# Altium schematic symbol library Voltage-Regulators.SchLib: 11 symbols
Pins are listed as number, name and electrical type; pins without a type are passive.

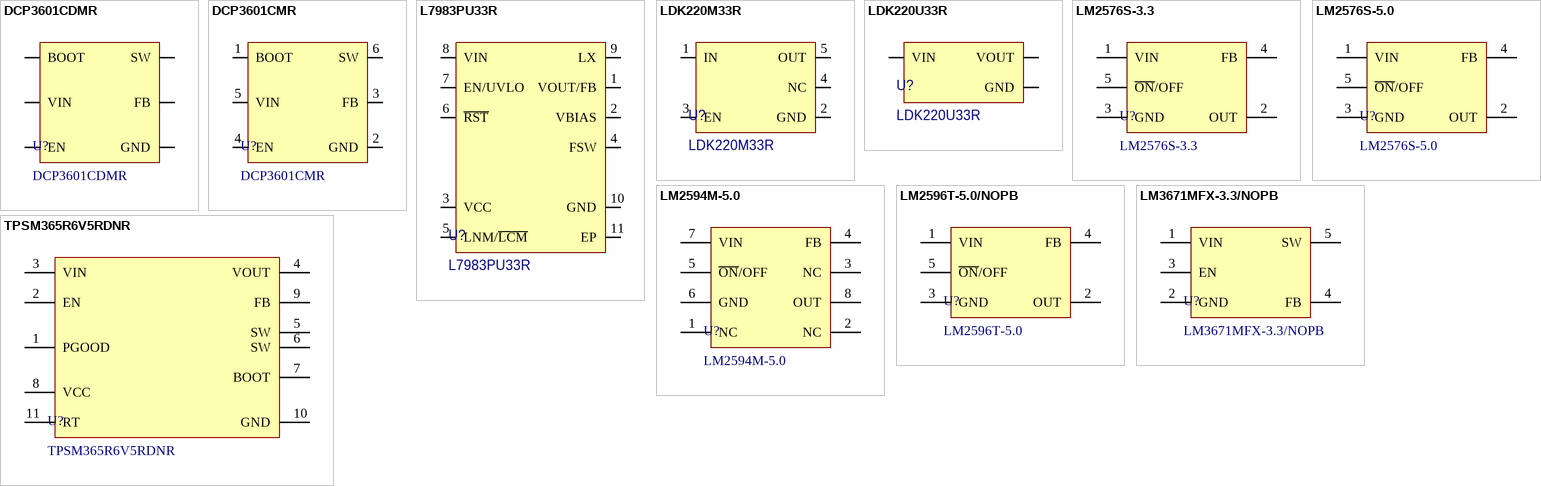
[diagram p0: symbols DCP3601CDMR to TPSM365R6V5RDNR]

## DCP3601CDMR
designator U?
IC REG 36 V, 1 A SYNCHRONOUS STEP-DOWN; Manufacturer: STMicroelectronics; Max Supply Voltage: 36V; Max Output current: 1A; Max Switching Frequency: 1.2MHz; Min Input Voltage: 3.3V; Nominal Supply Voltage: 24V; Nominal Output Voltage: 5V; Number of Circuits: 1; Topology: Buck; Supplier: DigiKey; Supplier Part Number: 497-DCP3601CDMRCT-ND; Manufacturer Part Number: DCP3601CDMR; RoHS: Compliant; Category: Voltage Regulators - Switching; Stock: 1270; Pricing: 1=0.79, 10=0.562, 25=0.5052, 100=0.443, 250=0.41336, 500=0.39546, 1000=0.38074, 2500=0.3652, 5000=0.35584 (USD); Height - Seated (Max): 1.25mm; Length: 2.92mm; Lifecycle Status: Production; Max Operating Temperature: 150°C; Min Operating Temperature: -40°C; Number of Terminals: 6; REACH SVHC: Yes; Terminal Pitch: 950µm; Width: 1.6mm
footprint SOT-23-6
pins: 1 BOOT, 2 GND, 3 FB, 4 EN, 5 VIN, 6 SW

## DCP3601CMR
designator U?
36 V, 1 A SYNCHRONOUS STEP-DOWN; Manufacturer: STMicroelectronics; Max Supply Voltage: 36V; Max Output current: 1A; Max Switching Frequency: 1.2MHz; Min Input Voltage: 3.3V; Nominal Supply Voltage: 24V; Nominal Output Voltage: 5V; Number of Circuits: 1; Topology: Buck; Supplier: DigiKey; Supplier Part Number: 497-DCP3601CMRCT-ND; Manufacturer Part Number: DCP3601CMR; RoHS: Compliant; Category: Voltage Regulators - Switching; Stock: 1980; Pricing: 1=0.79, 10=0.562, 25=0.5052, 100=0.443, 250=0.41336, 500=0.39546, 1000=0.38074, 2500=0.3652, 5000=0.35584 (USD); Height - Seated (Max): 1.25mm; Length: 2.92mm; Lifecycle Status: Production; Max Operating Temperature: 150°C; Min Operating Temperature: -40°C; Number of Terminals: 6; Terminal Pitch: 950µm; Width: 1.6mm
footprint SOT-23-6
pins: 1 BOOT, 2 GND, 3 FB, 4 EN, 5 VIN, 6 SW

## L7983PU33R
designator U?
IC REG BUCK 3.3V 300MA 10DFN; Manufacturer: STMicroelectronics; Max Supply Voltage: 60V; Max Switching Frequency: 2.42MHz; Min Input Voltage: 3.5V; Min Output Voltage: 850mV; Nominal Supply Voltage: 24V; Number of Circuits: 1; Quiescent Current: 10µA; Synchronous Rectifier: Yes; Supplier: DigiKey; Supplier Part Number: 497-L7983PU33RCT-ND; Manufacturer Part Number: L7983PU33R; RoHS: Compliant; Category: Voltage Regulators - Switching; Stock: 4366; Pricing: 1=2.69, 10=2.001, 25=1.83, 100=1.6411, 250=1.55108, 500=1.5155 (USD); China RoHS: Compliant; Country of Origin: Mainland China; Export Control Classification Number (ECCN) Code: EAR99; Height - Seated (Max): 800µm; Harmonized Tariff Schedule (HTS) Code: 8542.39.00.60; Introduction Date: 2020-10-06; Length: 3mm; Lifecycle Status: Production; Max Operating Temperature: 150°C; Max Output current: 300mA; Max Output Voltage: 60V; Min Operating Temperature: -40°C; Nominal Output Voltage: 3.3V; Number of Terminals: 10; Output Current: 300mA; Packaging: Tape and Reel; REACH SVHC: Yes; Schedule B: 8542390000, 8542390000|8542390000|8542390000|8542390000|8542390000|8542390000|8542390000|8542390000|8542390000|8542390000|8542390000|8542390000|8542390000|8542390000|8542390000|8542390000|8542390000|8542390000|8542390000|8542390000|8542390000|8542390000|8542390000|85; Terminal Pitch: 500µm; Topology: Buck; Width: 3mm
footprint 10-WFDFN-EP
pins: 1 VOUT/FB, 2 VBIAS, 3 VCC, 4 FSW, 5 LNM/~{LCM}, 6 ~{RST}, 7 EN/UVLO, 8 VIN, 9 LX, 10 GND, 11 EP

## LDK220M33R
designator U?
IC REG LINEAR 3.3V 200MA SOT23-5; Manufacturer: STMicroelectronics; Accuracy: 2%; Dropout Voltage: 200mV; Max Supply Voltage: 13.2V; Max Junction Temperature (Tj): 125°C; Max Power Dissipation: 500mW; Min Input Voltage: 4.3V; Number of Channels: 1; Output Type: Fixed; Polarity: Positive; Quiescent Current: 60µA; Voltage Tolerance: 3%; Supplier: DigiKey; Supplier Part Number: 497-14824-1-ND; Manufacturer Part Number: LDK220M33R; RoHS: Compliant; Category: LDO Voltage Regulators; Stock: 13215; Pricing: 1=0.39, 10=0.268, 25=0.2388, 100=0.2061, 250=0.1906, 500=0.18124, 1000=0.17353 (USD); Case/Package: LSSOP; China RoHS: Compliant; Contact Plating: Tin; Country of Origin: Mainland China; Export Control Classification Number (ECCN) Code: EAR99; Height: 1mm; Height - Seated (Max): 1.45mm; Harmonized Tariff Schedule (HTS) Code: 8542.39.00.60; Introduction Date: 2014-03-19; Lead Free: Lead Free; Length: 2.95mm; Lifecycle Status: Production; Max Operating Temperature: 125°C; Max Output current: 200mA; Min Operating Temperature: -40°C; Mounting Technology: Surface Mount; Nominal Output Voltage: 3.3V; Number of Circuits: 1; Number of Outputs: 1; Pins: 5; Number of Regulators: 1; Number of Terminals: 5; Output Current: 200mA; Output Voltage: 3.3V; Packaging: Cut Tape; Radiation Hardening: No; REACH SVHC: Yes; Schedule B: 8542390000, 8542390000|8542390000|8542390000|8542390000|8542390000; Terminal Pitch: 950µm; Weight: 29.993795mg; Width: 1.6mm; ComponentLink1URL: https://datasheet.octopart.com:443/LDK220M33R-STMicroelectronics-datasheet-164563982.pdf?src-supplier=IHS; ComponentLink1Description: https://datasheet.octopart.com:443/LDK220M33R-STMicroelectronics-datasheet-164563982.pdf?src-supplier=IHS; ComponentLink2URL: https://datasheet.octopart.com:443/LDK220M33R-STMicroelectronics-datasheet-44506895.pdf?src-supplier=element14+APAC; ComponentLink2Description: https://datasheet.octopart.com:443/LDK220M33R-STMicroelectronics-datasheet-44506895.pdf?src-supplier=element14+APAC; ComponentLink3URL: https://datasheet.octopart.com:443/LDK220M33R-STMicroelectronics-datasheet-24910216.pdf?src-supplier=Future+Electronics; ComponentLink3Description: https://datasheet.octopart.com:443/LDK220M33R-STMicroelectronics-datasheet-24910216.pdf?src-supplier=Future+Electronics; ComponentLink4URL: https://datasheet.octopart.com:443/LDK220M33R-STMicroelectronics-datasheet-36991664.pdf?src-supplier=Newark; ComponentLink4Description: https://datasheet.octopart.com:443/LDK220M33R-STMicroelectronics-datasheet-36991664.pdf?src-supplier=Newark; ComponentLink5URL: https://datasheet.octopart.com:443/LDK220M33R-STMicroelectronics-datasheet-101746762.pdf?src-supplier=Augswan; ComponentLink5Description: https://datasheet.octopart.com:443/LDK220M33R-STMicroelectronics-datasheet-101746762.pdf?src-supplier=Augswan
footprint SOT-23-5
pins: 1 IN, 2 GND, 3 EN, 4 NC, 5 OUT

## LDK220U33R
designator U?
IC REG LINEAR 3.3V 200MA SOT89; Manufacturer: STMicroelectronics; Max Supply Voltage: 13.2V; Max Junction Temperature (Tj): 125°C; Min Input Voltage: 4.3V; Number of Channels: 1; Output Type: Fixed; Voltage Tolerance: 3%; Supplier: DigiKey; Supplier Part Number: 497-17107-1-ND; Manufacturer Part Number: LDK220U33R; RoHS: Compliant; Category: LDO Voltage Regulators; Stock: 20368; Pricing: 1=0.39, 10=0.268, 25=0.2388, 100=0.2061, 250=0.1906, 500=0.18124, 1000=0.17353 (USD); China RoHS: Compliant; Height - Seated (Max): 1.6mm; Length: 4.5mm; Lifecycle Status: Production; Number of Circuits: 1; Number of Outputs: 1; Number of Terminals: 3; Output Current: 200mA; Output Voltage: 3.3V; Packaging: Cut Tape; REACH SVHC: Yes; Schedule B: 8542390000, 8542390000|8542390000|8542390000|8542390000|8542390000; Terminal Pitch: 1.495mm; Width: 2.445mm; ComponentLink1URL: https://datasheet.octopart.com:443/LDK220U33R-STMicroelectronics-datasheet-164563982.pdf?src-supplier=IHS; ComponentLink1Description: https://datasheet.octopart.com:443/LDK220U33R-STMicroelectronics-datasheet-164563982.pdf?src-supplier=IHS; ComponentLink2URL: https://datasheet.octopart.com:443/LDK220U33R-STMicroelectronics-datasheet-78844600.pdf?src-supplier=HQonline; ComponentLink2Description: https://datasheet.octopart.com:443/LDK220U33R-STMicroelectronics-datasheet-78844600.pdf?src-supplier=HQonline; ComponentLink3URL: https://datasheet.octopart.com:443/LDK220U33R-STMicroelectronics-datasheet-101746762.pdf?src-supplier=SHENGYU+ELECTRONICS; ComponentLink3Description: https://datasheet.octopart.com:443/LDK220U33R-STMicroelectronics-datasheet-101746762.pdf?src-supplier=SHENGYU+ELECTRONICS
footprint SOT-89
pins: 1 VOUT, 2 GND, 3 VIN

## LM2576S-3.3
designator U?
IC REG BUCK 3.3V 3A TO263-5L; Manufacturer: UMW(Youtai Semiconductor); Supplier: Digikey; Supplier Part Number: 4518-LM2576S-3.3CT-ND; Manufacturer Part Number: LM2576S-3.3; RoHS: No; Stock: 265; Pricing: 1=2.64, 5=2.544, 10=2.503, 25=2.4496, 50=2.4098, 100=2.3707, 250=2.31996 (USD)
footprint TO-263-6
pins: 1 VIN, 2 OUT, 3 GND, 4 FB, 5 ~{ON}/OFF

## LM2576S-5.0
designator U?
IC REG BUCK 3A TO263-5L; Manufacturer: UMW(Youtai Semiconductor); Supplier: Digikey; Supplier Part Number: 4518-LM2576S-5.0CT-ND; Manufacturer Part Number: LM2576S-5.0; RoHS: No; Stock: 1576; Pricing: 1=3.46, 10=2.212, 25=1.8856, 100=1.516, 250=1.3346 (USD)
footprint TO-263-6
pins: 1 VIN, 2 OUT, 3 GND, 4 FB, 5 ~{ON}/OFF

## LM2594M-5.0
designator U?
IC REG BUCK 5V 500MA 8SOIC; Manufacturer: Texas Instruments; Package Body Material: Plastic; Throw Configuration: SWITCHING REGULATOR; Control Mode: VOLTAGE-MODE; Control Technique: PULSE WIDTH MODULATION; Max Supply Voltage: 40V; Min Input Voltage: 4.5V; Nominal Supply Voltage: 12V; Channels: 1; Max Output current: 1.4A; Package Equivalence Code: SOP8,.25; Frequency: 173kHz; Qualification Status: Not Qualified; Supplier: Digikey; Supplier Part Number: LM2594M-5.0-ND; Manufacturer Part Number: LM2594M-5.0; RoHS: No; Category: Voltage Regulators - Switching; Stock: 6831; Pricing: 1=5.29, 10=4.035, 95=3.38947, 190=3.25984, 285=3.19495, 570=3.0997, 1045=3.03036, 2565=2.94707 (USD); Case/Package: SOP; Pins: 8; Package Shape: Rectangular; Terminal Finish: Tin; Min Operating Temperature: -40°C; Max Operating Temperature: 125°C; JESD-609 Code: e0; JESD-30 Code: R-PDSO-G8; Moisture Sensitivity Level: 1; Nominal Output Voltage: 5V; Package Style: SMALL OUTLINEMeter; Peak Reflow Temperature (Cel): 235°C; Surface Mount: Yes; Switcher Configuration: BUCK; Technology: BIPOLAR; Terminal Form: Gull Wing; Terminal Position: DUAL; Length: 4.9mm; Width: 3.9mm; Height - Seated (Max): 1.75mm; Terminal Pitch: 1.27mm; Temperature Grade: AUTOMOTIVE; RoHS Compliant: No; Reach SVHC Compliant: No; ComponentLink1URL: https://www.ti.com:443/lit/ds/symlink/lm2594.pdf?src-supplier=IHS+Markit; ComponentLink1Description: https://www.ti.com:443/lit/ds/symlink/lm2594.pdf?src-supplier=IHS+Markit; ComponentLink2URL: https://datasheet.ciiva.com/15113/getdatasheetpartid-224262-15113414.pdf?src-supplier=Verical; ComponentLink2Description: https://datasheet.ciiva.com/15113/getdatasheetpartid-224262-15113414.pdf?src-supplier=Verical; ComponentLink3URL: https://datasheet.ciiva.com/4905/snvs118b-14279-4905536.pdf?src-supplier=Mouser; ComponentLink3Description: https://datasheet.ciiva.com/4905/snvs118b-14279-4905536.pdf?src-supplier=Mouser; ComponentLink4URL: https://datasheet.ciiva.com/6596/lm2594-6596622.pdf?src-supplier=Digikey; ComponentLink4Description: https://datasheet.ciiva.com/6596/lm2594-6596622.pdf?src-supplier=Digikey; ComponentLink5URL: https://datasheet.ciiva.com/14303/lm2594-14303576.pdf?src-supplier=Avnet; ComponentLink5Description: https://datasheet.ciiva.com/14303/lm2594-14303576.pdf?src-supplier=Avnet; ComponentLink6URL: https://datasheet.ciiva.com/22669/1640740-22669247.pdf?src-supplier=Element14; ComponentLink6Description: https://datasheet.ciiva.com/22669/1640740-22669247.pdf?src-supplier=Element14
footprint SOIC-8
pins: 1 NC, 2 NC, 3 NC, 4 FB, 5 ~{ON}/OFF, 6 GND, 7 VIN, 8 OUT

## LM2596T-5.0/NOPB
designator U?, comment LM2596T-5.0
IC REG BUCK 5V 3A TO220-5; Manufacturer: TI National Semiconductor; Manufacturer Part Number: LM2596T-5.0/NOPB; Throw Configuration: SWITCHING REGULATOR; Control Mode: VOLTAGE-MODE; Max Supply Voltage: 40V; Min Input Voltage: 7V; Nominal Supply Voltage: 12V; Channels: 1; Max Output current: 7.5A; Surface Mount: No; Frequency: 173kHz; Qualification Status: Not Qualified; Supplier: Digikey; Supplier Part Number: LM2596T-5.0/NOPB-ND; RoHS: Yes; Category: Voltage Regulators - Switching; Stock: 287; Pricing: 1=5.83, 10=5.235, 45=4.94956, 135=4.28956, 270=4.06959, 540=3.65163, 1035=3.07969, 2520=2.92571 (USD); Case/Package: ZIP; Pins: 5; Package Shape: Rectangular; Terminal Finish: Tin; Min Operating Temperature: -40°C; Max Operating Temperature: 125°C; JESD-609 Code: e3; Moisture Sensitivity Level: 1; Nominal Output Voltage: 5V; Package Style: FLANGE MOUNTMeter; Switcher Configuration: BUCK; Technology: BIPOLAR; Terminal Form: Through Hole; Terminal Position: ZIG-ZAG; Terminal Pitch: 1.7mm; Temperature Grade: AUTOMOTIVE; Reach SVHC Compliant: Yes; RoHS Compliant: Yes; ComponentLink1URL: https://www.ti.com:443/lit/ds/symlink/lm2596.pdf?src-supplier=IHS+Markit; ComponentLink1Description: https://www.ti.com:443/lit/ds/symlink/lm2596.pdf?src-supplier=IHS+Markit; ComponentLink2URL: https://datasheet.ciiva.com/27050/895246-27050702.pdf?src-supplier=Jameco; ComponentLink2Description: https://datasheet.ciiva.com/27050/895246-27050702.pdf?src-supplier=Jameco; ComponentLink3URL: https://datasheet.ciiva.com/15112/getdatasheetpartid-112480-15112922.pdf?src-supplier=Verical; ComponentLink3Description: https://datasheet.ciiva.com/15112/getdatasheetpartid-112480-15112922.pdf?src-supplier=Verical; ComponentLink4URL: https://datasheet.ciiva.com/41457/001013818-da-01-en-ic-reg-buc-lm2596t-5-0-nopb-to-220-5-tid-41457761.pdf?src-supplier=Conrad; ComponentLink4Description: https://datasheet.ciiva.com/41457/001013818-da-01-en-ic-reg-buc-lm2596t-5-0-nopb-to-220-5-tid-41457761.pdf?src-supplier=Conrad; ComponentLink5URL: https://datasheet.ciiva.com/14150/jqlm2596x-xx-e-14150652.pdf?src-supplier=Distrelec; ComponentLink5Description: https://datasheet.ciiva.com/14150/jqlm2596x-xx-e-14150652.pdf?src-supplier=Distrelec; ComponentLink6URL: https://datasheet.ciiva.com/3219/lm2596-3219991.pdf?src-supplier=Avnet; ComponentLink6Description: https://datasheet.ciiva.com/3219/lm2596-3219991.pdf?src-supplier=Avnet; ComponentLink7URL: https://datasheet.ciiva.com/6580/lm2596-6580189.pdf?src-supplier=Digikey; ComponentLink7Description: https://datasheet.ciiva.com/6580/lm2596-6580189.pdf?src-supplier=Digikey; ComponentLink8URL: https://datasheet.ciiva.com/22669/1768026-22669468.pdf?src-supplier=Element14; ComponentLink8Description: https://datasheet.ciiva.com/22669/1768026-22669468.pdf?src-supplier=Element14
footprint TO-220-5 (FM, 5-Leads, Body 10.6x4.7mm, Pitch 1.7mm)
pins: 1 VIN, 2 OUT, 3 GND, 4 FB, 5 ~{ON}/OFF

## LM3671MFX-3.3/NOPB
designator U?
IC REG BUCK 3.3V 600MA SOT23-5; Manufacturer: TI National Semiconductor; Package Body Material: Plastic; Throw Configuration: SWITCHING REGULATOR; Control Mode: VOLTAGE-MODE; Control Technique: PULSE WIDTH MODULATION; Max Supply Voltage: 5.5V; Min Input Voltage: 2.7V; Nominal Supply Voltage: 3.6V; Channels: 1; Max Output current: 1.15A; Package Equivalence Code: TSOP5/6,.11,37; Frequency: 2.6MHz; Time @ Peak Reflow Temperature-Max (s): 40s; Qualification Status: Not Qualified; Supplier: Digikey; Supplier Part Number: 296-45289-1-ND; Manufacturer Part Number: LM3671MFX-3.3/NOPB; RoHS: Yes; Category: Voltage Regulators - Switching; Stock: 5523; Pricing: 1=1.33, 10=0.967, 25=0.876, 100=0.7762, 250=0.72848, 500=0.69974, 1000=0.67607 (USD); Case/Package: LSSOP; Pins: 5; Package Shape: Rectangular; Terminal Finish: Tin; Min Operating Temperature: -30°C; Max Operating Temperature: 85°C; JESD-609 Code: e3; JESD-30 Code: R-PDSO-G5; Moisture Sensitivity Level: 1; Package Style: SMALL OUTLINE, LOW PROFILE, SHRINK PITCHMeter; Peak Reflow Temperature (Cel): 260°C; Surface Mount: Yes; Switcher Configuration: BUCK; Terminal Form: Gull Wing; Terminal Position: DUAL; Length: 2.92mm; Width: 1.6mm; Height - Seated (Max): 1.22mm; Terminal Pitch: 0.953mm; Temperature Grade: OTHER; Reach SVHC Compliant: Yes; RoHS Compliant: Yes; ComponentLink1URL: https://datasheet.ciiva.com:443/pdfs/VipMasterIC/IC/NATL/NATLS09652/NATLS09652-1.pdf?src-supplier=IHS+Markit; ComponentLink1Description: https://datasheet.ciiva.com:443/pdfs/VipMasterIC/IC/NATL/NATLS09652/NATLS09652-1.pdf?src-supplier=IHS+Markit; ComponentLink2URL: https://datasheet.ciiva.com/6606/lm3671-6606568.pdf?src-supplier=Digikey; ComponentLink2Description: https://datasheet.ciiva.com/6606/lm3671-6606568.pdf?src-supplier=Digikey; ComponentLink3URL: https://datasheet.ciiva.com/14377/lm3671-14377151.pdf?src-supplier=Avnet; ComponentLink3Description: https://datasheet.ciiva.com/14377/lm3671-14377151.pdf?src-supplier=Avnet
footprint SOT-23-5
pins: 1 VIN, 2 GND, 3 EN, 4 FB, 5 SW

## TPSM365R6V5RDNR
designator U?
DC DC CONVERTER 5V; Manufacturer: Texas Instruments; Supplier: Digikey; Supplier Part Number: 296-TPSM365R6V5RDNRCT-ND; Manufacturer Part Number: TPSM365R6V5RDNR; RoHS: No; Stock: 2861; Pricing: 1=3.78, 10=2.853, 25=2.6212, 100=2.366, 250=2.24432, 500=2.17096, 1000=2.11058 (USD)
footprint 11-QFN-FCMOD
pins: 1 PGOOD, 2 EN, 3 VIN, 4 VOUT, 5 SW, 6 SW, 7 BOOT, 8 VCC, 9 FB, 10 GND, 11 RT